# Altium integrated library Dallas Logic Delay Line.IntLib: 454 symbols (part 5 of 8)
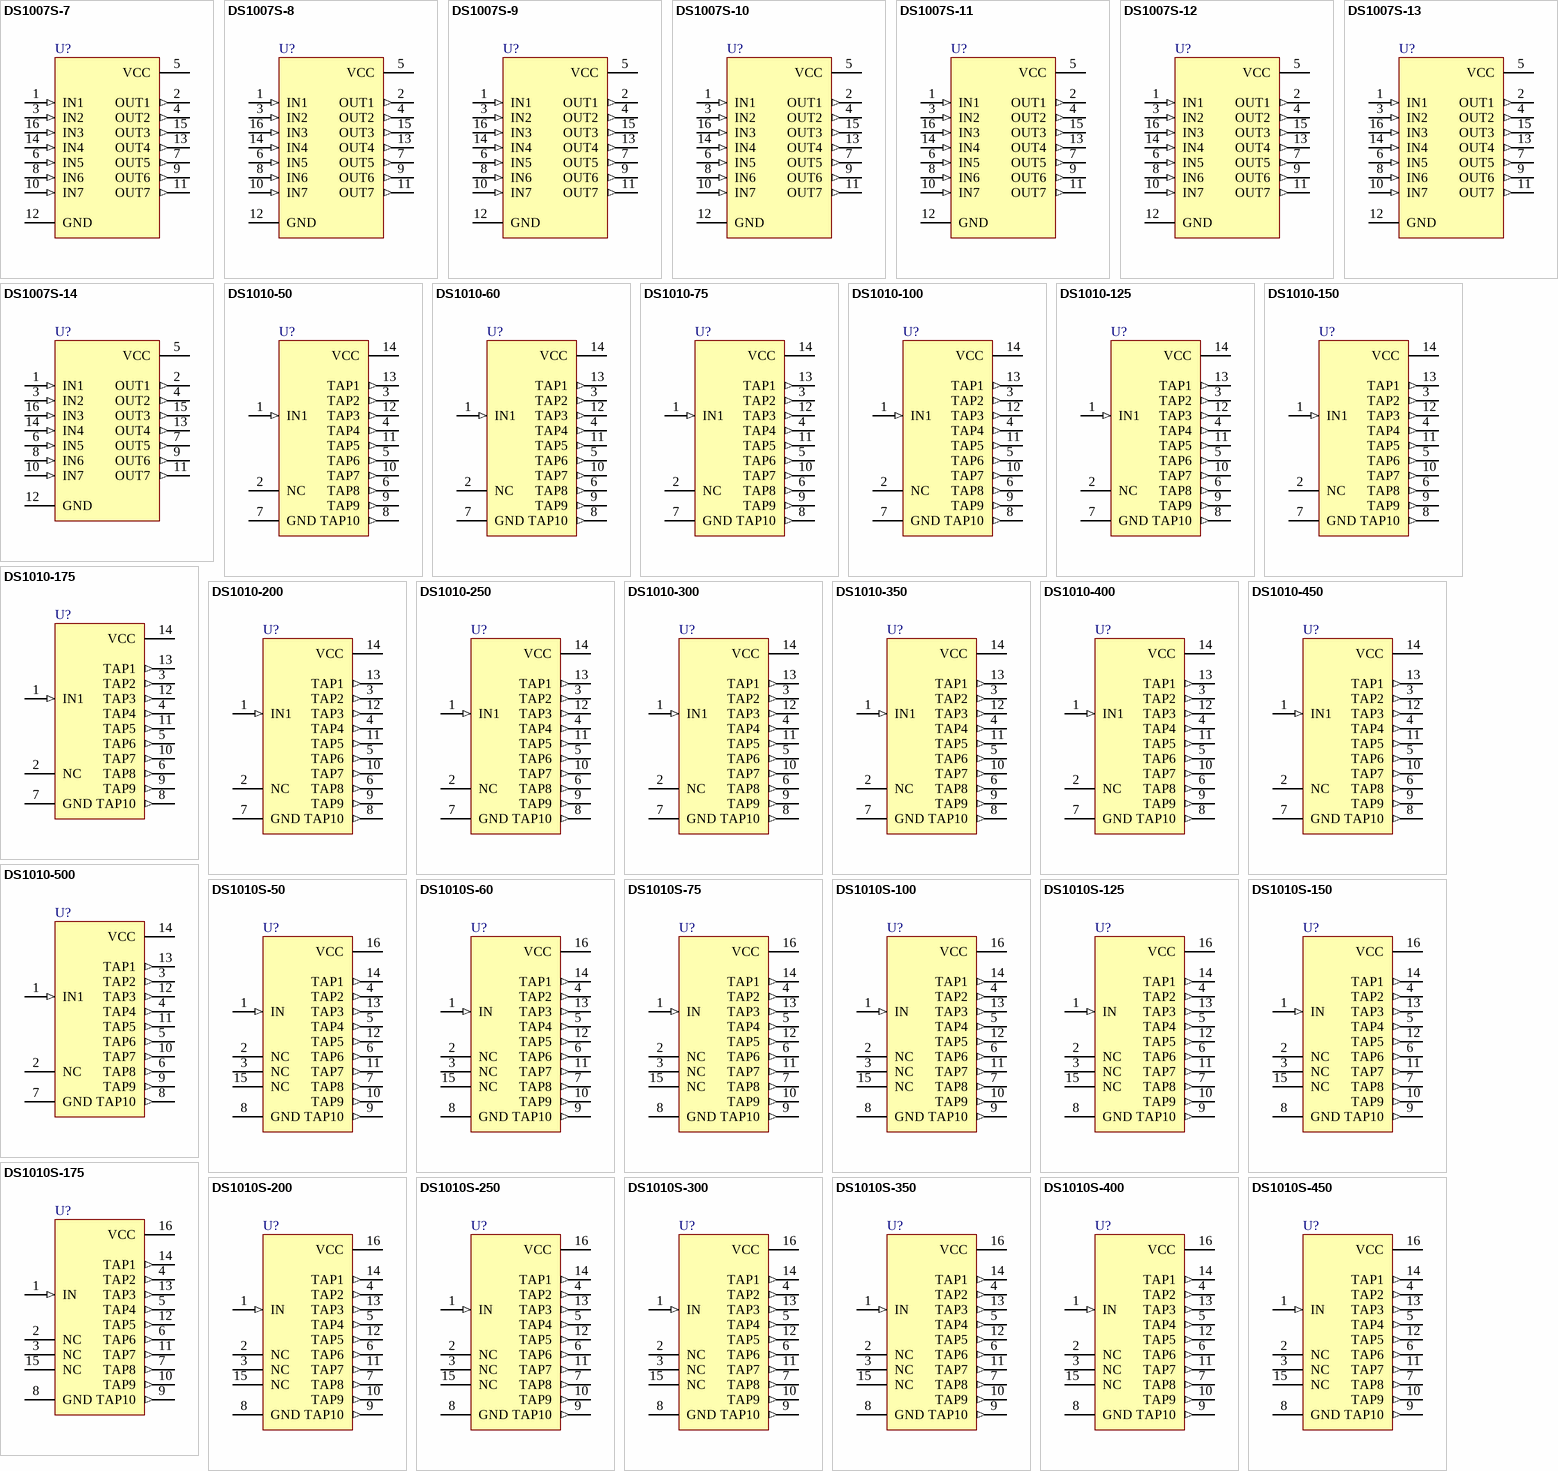
[diagram p15: symbols DS1007S-7 to DS1010S-450]

## DS1007S-8
designator U?
7-in-1 Silicon Delay Line; Published: 13-Oct-2000; LatestRevisionDate: 13-Apr-2006; LatestRevisionNote: IPC-7351 Footprint Added.; DatasheetVersion: Mar-1994; PackageVersion: 1999; PackageReference: SOIC16W; Publisher: Altium Limited; PackageDescription: 16-Pin Small Outline Integrated Circuit 1.27 mm Pitch; ComponentLink1Description: Manufacturer Link; ComponentLink1URL: http://www.maxim-ic.com/; ComponentLink2Description: Datasheet; ComponentLink2URL: http://www.maxim-ic.com/getds.cfm?qv_pk=2603&ln=en
footprint SOIC16W_N (SOIC, 16-Leads, Body 10.3x7.5mm, Pitch 1.27mm, IPC Medium Density)
footprint SOIC16W_L (SOIC, 16-Leads, Body 10.3x7.5mm, Pitch 1.27mm, IPC High Density)
footprint SOIC16W_M (SOIC, 16-Leads, Body 10.3x7.5mm, Pitch 1.27mm, IPC Low Density)
pins: 1 IN1 (in), 2 OUT1 (out), 3 IN2 (in), 4 OUT2 (out), 5 VCC (power), 6 IN5 (in), 7 OUT5 (out), 8 IN6 (in), 9 OUT6 (out), 10 IN7 (in), 11 OUT7 (out), 12 GND (power), 13 OUT4 (out), 14 IN4 (in), 15 OUT3 (out), 16 IN3 (in)

## DS1007S-9
designator U?
7-in-1 Silicon Delay Line; Published: 13-Oct-2000; LatestRevisionDate: 13-Apr-2006; LatestRevisionNote: IPC-7351 Footprint Added.; DatasheetVersion: Mar-1994; PackageVersion: 1999; PackageReference: SOIC16W; Publisher: Altium Limited; PackageDescription: 16-Pin Small Outline Integrated Circuit 1.27 mm Pitch; ComponentLink1Description: Manufacturer Link; ComponentLink1URL: http://www.maxim-ic.com/; ComponentLink2Description: Datasheet; ComponentLink2URL: http://www.maxim-ic.com/getds.cfm?qv_pk=2603&ln=en
footprint SOIC16W_N (SOIC, 16-Leads, Body 10.3x7.5mm, Pitch 1.27mm, IPC Medium Density)
footprint SOIC16W_L (SOIC, 16-Leads, Body 10.3x7.5mm, Pitch 1.27mm, IPC High Density)
footprint SOIC16W_M (SOIC, 16-Leads, Body 10.3x7.5mm, Pitch 1.27mm, IPC Low Density)
pins: 1 IN1 (in), 2 OUT1 (out), 3 IN2 (in), 4 OUT2 (out), 5 VCC (power), 6 IN5 (in), 7 OUT5 (out), 8 IN6 (in), 9 OUT6 (out), 10 IN7 (in), 11 OUT7 (out), 12 GND (power), 13 OUT4 (out), 14 IN4 (in), 15 OUT3 (out), 16 IN3 (in)

## DS1007S-10
designator U?
7-in-1 Silicon Delay Line; Published: 13-Oct-2000; LatestRevisionDate: 13-Apr-2006; LatestRevisionNote: IPC-7351 Footprint Added.; DatasheetVersion: Mar-1994; PackageVersion: 1999; PackageReference: SOIC16W; Publisher: Altium Limited; PackageDescription: 16-Pin Small Outline Integrated Circuit 1.27 mm Pitch; ComponentLink1Description: Manufacturer Link; ComponentLink1URL: http://www.maxim-ic.com/; ComponentLink2Description: Datasheet; ComponentLink2URL: http://www.maxim-ic.com/getds.cfm?qv_pk=2603&ln=en
footprint SOIC16W_N (SOIC, 16-Leads, Body 10.3x7.5mm, Pitch 1.27mm, IPC Medium Density)
footprint SOIC16W_L (SOIC, 16-Leads, Body 10.3x7.5mm, Pitch 1.27mm, IPC High Density)
footprint SOIC16W_M (SOIC, 16-Leads, Body 10.3x7.5mm, Pitch 1.27mm, IPC Low Density)
pins: 1 IN1 (in), 2 OUT1 (out), 3 IN2 (in), 4 OUT2 (out), 5 VCC (power), 6 IN5 (in), 7 OUT5 (out), 8 IN6 (in), 9 OUT6 (out), 10 IN7 (in), 11 OUT7 (out), 12 GND (power), 13 OUT4 (out), 14 IN4 (in), 15 OUT3 (out), 16 IN3 (in)

## DS1007S-11
designator U?
7-in-1 Silicon Delay Line; Published: 13-Oct-2000; LatestRevisionDate: 13-Apr-2006; LatestRevisionNote: IPC-7351 Footprint Added.; DatasheetVersion: Mar-1994; PackageVersion: 1999; PackageReference: SOIC16W; Publisher: Altium Limited; PackageDescription: 16-Pin Small Outline Integrated Circuit 1.27 mm Pitch; ComponentLink1Description: Manufacturer Link; ComponentLink1URL: http://www.maxim-ic.com/; ComponentLink2Description: Datasheet; ComponentLink2URL: http://www.maxim-ic.com/getds.cfm?qv_pk=2603&ln=en
footprint SOIC16W_N (SOIC, 16-Leads, Body 10.3x7.5mm, Pitch 1.27mm, IPC Medium Density)
footprint SOIC16W_L (SOIC, 16-Leads, Body 10.3x7.5mm, Pitch 1.27mm, IPC High Density)
footprint SOIC16W_M (SOIC, 16-Leads, Body 10.3x7.5mm, Pitch 1.27mm, IPC Low Density)
pins: 1 IN1 (in), 2 OUT1 (out), 3 IN2 (in), 4 OUT2 (out), 5 VCC (power), 6 IN5 (in), 7 OUT5 (out), 8 IN6 (in), 9 OUT6 (out), 10 IN7 (in), 11 OUT7 (out), 12 GND (power), 13 OUT4 (out), 14 IN4 (in), 15 OUT3 (out), 16 IN3 (in)

## DS1007S-12
designator U?
7-in-1 Silicon Delay Line; Published: 13-Oct-2000; LatestRevisionDate: 13-Apr-2006; LatestRevisionNote: IPC-7351 Footprint Added.; DatasheetVersion: Mar-1994; PackageVersion: 1999; PackageReference: SOIC16W; Publisher: Altium Limited; PackageDescription: 16-Pin Small Outline Integrated Circuit 1.27 mm Pitch; ComponentLink1Description: Manufacturer Link; ComponentLink1URL: http://www.maxim-ic.com/; ComponentLink2Description: Datasheet; ComponentLink2URL: http://www.maxim-ic.com/getds.cfm?qv_pk=2603&ln=en
footprint SOIC16W_N (SOIC, 16-Leads, Body 10.3x7.5mm, Pitch 1.27mm, IPC Medium Density)
footprint SOIC16W_L (SOIC, 16-Leads, Body 10.3x7.5mm, Pitch 1.27mm, IPC High Density)
footprint SOIC16W_M (SOIC, 16-Leads, Body 10.3x7.5mm, Pitch 1.27mm, IPC Low Density)
pins: 1 IN1 (in), 2 OUT1 (out), 3 IN2 (in), 4 OUT2 (out), 5 VCC (power), 6 IN5 (in), 7 OUT5 (out), 8 IN6 (in), 9 OUT6 (out), 10 IN7 (in), 11 OUT7 (out), 12 GND (power), 13 OUT4 (out), 14 IN4 (in), 15 OUT3 (out), 16 IN3 (in)

## DS1007S-13
designator U?
7-in-1 Silicon Delay Line; Published: 13-Oct-2000; LatestRevisionDate: 13-Apr-2006; LatestRevisionNote: IPC-7351 Footprint Added.; DatasheetVersion: Mar-1994; PackageVersion: 1999; PackageReference: SOIC16W; Publisher: Altium Limited; PackageDescription: 16-Pin Small Outline Integrated Circuit 1.27 mm Pitch; ComponentLink1Description: Manufacturer Link; ComponentLink1URL: http://www.maxim-ic.com/; ComponentLink2Description: Datasheet; ComponentLink2URL: http://www.maxim-ic.com/getds.cfm?qv_pk=2603&ln=en
footprint SOIC16W_N (SOIC, 16-Leads, Body 10.3x7.5mm, Pitch 1.27mm, IPC Medium Density)
footprint SOIC16W_L (SOIC, 16-Leads, Body 10.3x7.5mm, Pitch 1.27mm, IPC High Density)
footprint SOIC16W_M (SOIC, 16-Leads, Body 10.3x7.5mm, Pitch 1.27mm, IPC Low Density)
pins: 1 IN1 (in), 2 OUT1 (out), 3 IN2 (in), 4 OUT2 (out), 5 VCC (power), 6 IN5 (in), 7 OUT5 (out), 8 IN6 (in), 9 OUT6 (out), 10 IN7 (in), 11 OUT7 (out), 12 GND (power), 13 OUT4 (out), 14 IN4 (in), 15 OUT3 (out), 16 IN3 (in)

## DS1007S-14
designator U?
7-in-1 Silicon Delay Line; Published: 13-Oct-2000; LatestRevisionDate: 13-Apr-2006; LatestRevisionNote: IPC-7351 Footprint Added.; DatasheetVersion: Mar-1994; PackageVersion: 1999; PackageReference: SOIC16W; Publisher: Altium Limited; PackageDescription: 16-Pin Small Outline Integrated Circuit 1.27 mm Pitch; ComponentLink1Description: Manufacturer Link; ComponentLink1URL: http://www.maxim-ic.com/; ComponentLink2Description: Datasheet; ComponentLink2URL: http://www.maxim-ic.com/getds.cfm?qv_pk=2603&ln=en
footprint SOIC16W_N (SOIC, 16-Leads, Body 10.3x7.5mm, Pitch 1.27mm, IPC Medium Density)
footprint SOIC16W_L (SOIC, 16-Leads, Body 10.3x7.5mm, Pitch 1.27mm, IPC High Density)
footprint SOIC16W_M (SOIC, 16-Leads, Body 10.3x7.5mm, Pitch 1.27mm, IPC Low Density)
pins: 1 IN1 (in), 2 OUT1 (out), 3 IN2 (in), 4 OUT2 (out), 5 VCC (power), 6 IN5 (in), 7 OUT5 (out), 8 IN6 (in), 9 OUT6 (out), 10 IN7 (in), 11 OUT7 (out), 12 GND (power), 13 OUT4 (out), 14 IN4 (in), 15 OUT3 (out), 16 IN3 (in)

## DS1010-50
designator U?
10-Tap Silicon Delay Line; Note: Pin number 2 is Not Connected (NC); Published: 13-Oct-2000; LatestRevisionDate: 17-Jul-2002; LatestRevisionNote: Re-released for DXP Platform.; DatasheetVersion: 17-Feb-1998; PackageVersion: 1999; PackageReference: DIP14; Publisher: Altium Limited; PackageDescription: DIP, 14-Pin, Row Spacing 7.62 mm, Pitch 2.54 mm; ComponentLink1Description: Manufacturer Link; ComponentLink1URL: http://www.maxim-ic.com/; ComponentLink2Description: Datasheet; ComponentLink2URL: http://www.maxim-ic.com/getds.cfm?qv_pk=2604&ln=en
footprint DIP14 (DIP, 14-Leads, Row Spacing 7.62mm, Pitch 2.54mm, Body 19.31x6.35mm)
pins: 1 IN1 (in), 2 NC, 3 TAP2 (out), 4 TAP4 (out), 5 TAP6 (out), 6 TAP8 (out), 7 GND (power), 8 TAP10 (out), 9 TAP9 (out), 10 TAP7 (out), 11 TAP5 (out), 12 TAP3 (out), 13 TAP1 (out), 14 VCC (power)

## DS1010-60
designator U?
10-Tap Silicon Delay Line; Note: Pin number 2 is Not Connected (NC); Published: 13-Oct-2000; LatestRevisionDate: 17-Jul-2002; LatestRevisionNote: Re-released for DXP Platform.; DatasheetVersion: 17-Feb-1998; PackageVersion: 1999; PackageReference: DIP14; Publisher: Altium Limited; PackageDescription: DIP, 14-Pin, Row Spacing 7.62 mm, Pitch 2.54 mm; ComponentLink1Description: Manufacturer Link; ComponentLink1URL: http://www.maxim-ic.com/; ComponentLink2Description: Datasheet; ComponentLink2URL: http://www.maxim-ic.com/getds.cfm?qv_pk=2604&ln=en
footprint DIP14 (DIP, 14-Leads, Row Spacing 7.62mm, Pitch 2.54mm, Body 19.31x6.35mm)
pins: 1 IN1 (in), 2 NC, 3 TAP2 (out), 4 TAP4 (out), 5 TAP6 (out), 6 TAP8 (out), 7 GND (power), 8 TAP10 (out), 9 TAP9 (out), 10 TAP7 (out), 11 TAP5 (out), 12 TAP3 (out), 13 TAP1 (out), 14 VCC (power)

## DS1010-75
designator U?
10-Tap Silicon Delay Line; Note: Pin number 2 is Not Connected (NC); Published: 13-Oct-2000; LatestRevisionDate: 17-Jul-2002; LatestRevisionNote: Re-released for DXP Platform.; DatasheetVersion: 17-Feb-1998; PackageVersion: 1999; PackageReference: DIP14; Publisher: Altium Limited; PackageDescription: DIP, 14-Pin, Row Spacing 7.62 mm, Pitch 2.54 mm; ComponentLink1Description: Manufacturer Link; ComponentLink1URL: http://www.maxim-ic.com/; ComponentLink2Description: Datasheet; ComponentLink2URL: http://www.maxim-ic.com/getds.cfm?qv_pk=2604&ln=en
footprint DIP14 (DIP, 14-Leads, Row Spacing 7.62mm, Pitch 2.54mm, Body 19.31x6.35mm)
pins: 1 IN1 (in), 2 NC, 3 TAP2 (out), 4 TAP4 (out), 5 TAP6 (out), 6 TAP8 (out), 7 GND (power), 8 TAP10 (out), 9 TAP9 (out), 10 TAP7 (out), 11 TAP5 (out), 12 TAP3 (out), 13 TAP1 (out), 14 VCC (power)

## DS1010-100
designator U?
10-Tap Silicon Delay Line; Note: Pin number 2 is Not Connected (NC); Published: 13-Oct-2000; LatestRevisionDate: 17-Jul-2002; LatestRevisionNote: Re-released for DXP Platform.; DatasheetVersion: 17-Feb-1998; PackageVersion: 1999; PackageReference: DIP14; Publisher: Altium Limited; PackageDescription: DIP, 14-Pin, Row Spacing 7.62 mm, Pitch 2.54 mm; ComponentLink1Description: Manufacturer Link; ComponentLink1URL: http://www.maxim-ic.com/; ComponentLink2Description: Datasheet; ComponentLink2URL: http://www.maxim-ic.com/getds.cfm?qv_pk=2604&ln=en
footprint DIP14 (DIP, 14-Leads, Row Spacing 7.62mm, Pitch 2.54mm, Body 19.31x6.35mm)
pins: 1 IN1 (in), 2 NC, 3 TAP2 (out), 4 TAP4 (out), 5 TAP6 (out), 6 TAP8 (out), 7 GND (power), 8 TAP10 (out), 9 TAP9 (out), 10 TAP7 (out), 11 TAP5 (out), 12 TAP3 (out), 13 TAP1 (out), 14 VCC (power)

## DS1010-125
designator U?
10-Tap Silicon Delay Line; Note: Pin number 2 is Not Connected (NC); Published: 13-Oct-2000; LatestRevisionDate: 17-Jul-2002; LatestRevisionNote: Re-released for DXP Platform.; DatasheetVersion: 17-Feb-1998; PackageVersion: 1999; PackageReference: DIP14; Publisher: Altium Limited; PackageDescription: DIP, 14-Pin, Row Spacing 7.62 mm, Pitch 2.54 mm; ComponentLink1Description: Manufacturer Link; ComponentLink1URL: http://www.maxim-ic.com/; ComponentLink2Description: Datasheet; ComponentLink2URL: http://www.maxim-ic.com/getds.cfm?qv_pk=2604&ln=en
footprint DIP14 (DIP, 14-Leads, Row Spacing 7.62mm, Pitch 2.54mm, Body 19.31x6.35mm)
pins: 1 IN1 (in), 2 NC, 3 TAP2 (out), 4 TAP4 (out), 5 TAP6 (out), 6 TAP8 (out), 7 GND (power), 8 TAP10 (out), 9 TAP9 (out), 10 TAP7 (out), 11 TAP5 (out), 12 TAP3 (out), 13 TAP1 (out), 14 VCC (power)

## DS1010-150
designator U?
10-Tap Silicon Delay Line; Note: Pin number 2 is Not Connected (NC); Published: 13-Oct-2000; LatestRevisionDate: 17-Jul-2002; LatestRevisionNote: Re-released for DXP Platform.; DatasheetVersion: 17-Feb-1998; PackageVersion: 1999; PackageReference: DIP14; Publisher: Altium Limited; PackageDescription: DIP, 14-Pin, Row Spacing 7.62 mm, Pitch 2.54 mm; ComponentLink1Description: Manufacturer Link; ComponentLink1URL: http://www.maxim-ic.com/; ComponentLink2Description: Datasheet; ComponentLink2URL: http://www.maxim-ic.com/getds.cfm?qv_pk=2604&ln=en
footprint DIP14 (DIP, 14-Leads, Row Spacing 7.62mm, Pitch 2.54mm, Body 19.31x6.35mm)
pins: 1 IN1 (in), 2 NC, 3 TAP2 (out), 4 TAP4 (out), 5 TAP6 (out), 6 TAP8 (out), 7 GND (power), 8 TAP10 (out), 9 TAP9 (out), 10 TAP7 (out), 11 TAP5 (out), 12 TAP3 (out), 13 TAP1 (out), 14 VCC (power)

## DS1010-175
designator U?
10-Tap Silicon Delay Line; Note: Pin number 2 is Not Connected (NC); Published: 13-Oct-2000; LatestRevisionDate: 17-Jul-2002; LatestRevisionNote: Re-released for DXP Platform.; DatasheetVersion: 17-Feb-1998; PackageVersion: 1999; PackageReference: DIP14; Publisher: Altium Limited; PackageDescription: DIP, 14-Pin, Row Spacing 7.62 mm, Pitch 2.54 mm; ComponentLink1Description: Manufacturer Link; ComponentLink1URL: http://www.maxim-ic.com/; ComponentLink2Description: Datasheet; ComponentLink2URL: http://www.maxim-ic.com/getds.cfm?qv_pk=2604&ln=en
footprint DIP14 (DIP, 14-Leads, Row Spacing 7.62mm, Pitch 2.54mm, Body 19.31x6.35mm)
pins: 1 IN1 (in), 2 NC, 3 TAP2 (out), 4 TAP4 (out), 5 TAP6 (out), 6 TAP8 (out), 7 GND (power), 8 TAP10 (out), 9 TAP9 (out), 10 TAP7 (out), 11 TAP5 (out), 12 TAP3 (out), 13 TAP1 (out), 14 VCC (power)

## DS1010-200
designator U?
10-Tap Silicon Delay Line; Note: Pin number 2 is Not Connected (NC); Published: 13-Oct-2000; LatestRevisionDate: 17-Jul-2002; LatestRevisionNote: Re-released for DXP Platform.; DatasheetVersion: 17-Feb-1998; PackageVersion: 1999; PackageReference: DIP14; Publisher: Altium Limited; PackageDescription: DIP, 14-Pin, Row Spacing 7.62 mm, Pitch 2.54 mm; ComponentLink1Description: Manufacturer Link; ComponentLink1URL: http://www.maxim-ic.com/; ComponentLink2Description: Datasheet; ComponentLink2URL: http://www.maxim-ic.com/getds.cfm?qv_pk=2604&ln=en
footprint DIP14 (DIP, 14-Leads, Row Spacing 7.62mm, Pitch 2.54mm, Body 19.31x6.35mm)
pins: 1 IN1 (in), 2 NC, 3 TAP2 (out), 4 TAP4 (out), 5 TAP6 (out), 6 TAP8 (out), 7 GND (power), 8 TAP10 (out), 9 TAP9 (out), 10 TAP7 (out), 11 TAP5 (out), 12 TAP3 (out), 13 TAP1 (out), 14 VCC (power)

## DS1010-250
designator U?
10-Tap Silicon Delay Line; Note: Pin number 2 is Not Connected (NC); Published: 13-Oct-2000; LatestRevisionDate: 17-Jul-2002; LatestRevisionNote: Re-released for DXP Platform.; DatasheetVersion: 17-Feb-1998; PackageVersion: 1999; PackageReference: DIP14; Publisher: Altium Limited; PackageDescription: DIP, 14-Pin, Row Spacing 7.62 mm, Pitch 2.54 mm; ComponentLink1Description: Manufacturer Link; ComponentLink1URL: http://www.maxim-ic.com/; ComponentLink2Description: Datasheet; ComponentLink2URL: http://www.maxim-ic.com/getds.cfm?qv_pk=2604&ln=en
footprint DIP14 (DIP, 14-Leads, Row Spacing 7.62mm, Pitch 2.54mm, Body 19.31x6.35mm)
pins: 1 IN1 (in), 2 NC, 3 TAP2 (out), 4 TAP4 (out), 5 TAP6 (out), 6 TAP8 (out), 7 GND (power), 8 TAP10 (out), 9 TAP9 (out), 10 TAP7 (out), 11 TAP5 (out), 12 TAP3 (out), 13 TAP1 (out), 14 VCC (power)

## DS1010-300
designator U?
10-Tap Silicon Delay Line; Note: Pin number 2 is Not Connected (NC); Published: 13-Oct-2000; LatestRevisionDate: 17-Jul-2002; LatestRevisionNote: Re-released for DXP Platform.; DatasheetVersion: 17-Feb-1998; PackageVersion: 1999; PackageReference: DIP14; Publisher: Altium Limited; PackageDescription: DIP, 14-Pin, Row Spacing 7.62 mm, Pitch 2.54 mm; ComponentLink1Description: Manufacturer Link; ComponentLink1URL: http://www.maxim-ic.com/; ComponentLink2Description: Datasheet; ComponentLink2URL: http://www.maxim-ic.com/getds.cfm?qv_pk=2604&ln=en
footprint DIP14 (DIP, 14-Leads, Row Spacing 7.62mm, Pitch 2.54mm, Body 19.31x6.35mm)
pins: 1 IN1 (in), 2 NC, 3 TAP2 (out), 4 TAP4 (out), 5 TAP6 (out), 6 TAP8 (out), 7 GND (power), 8 TAP10 (out), 9 TAP9 (out), 10 TAP7 (out), 11 TAP5 (out), 12 TAP3 (out), 13 TAP1 (out), 14 VCC (power)

## DS1010-350
designator U?
10-Tap Silicon Delay Line; Note: Pin number 2 is Not Connected (NC); Published: 13-Oct-2000; LatestRevisionDate: 17-Jul-2002; LatestRevisionNote: Re-released for DXP Platform.; DatasheetVersion: 17-Feb-1998; PackageVersion: 1999; PackageReference: DIP14; Publisher: Altium Limited; PackageDescription: DIP, 14-Pin, Row Spacing 7.62 mm, Pitch 2.54 mm; ComponentLink1Description: Manufacturer Link; ComponentLink1URL: http://www.maxim-ic.com/; ComponentLink2Description: Datasheet; ComponentLink2URL: http://www.maxim-ic.com/getds.cfm?qv_pk=2604&ln=en
footprint DIP14 (DIP, 14-Leads, Row Spacing 7.62mm, Pitch 2.54mm, Body 19.31x6.35mm)
pins: 1 IN1 (in), 2 NC, 3 TAP2 (out), 4 TAP4 (out), 5 TAP6 (out), 6 TAP8 (out), 7 GND (power), 8 TAP10 (out), 9 TAP9 (out), 10 TAP7 (out), 11 TAP5 (out), 12 TAP3 (out), 13 TAP1 (out), 14 VCC (power)

## DS1010-400
designator U?
10-Tap Silicon Delay Line; Note: Pin number 2 is Not Connected (NC); Published: 13-Oct-2000; LatestRevisionDate: 17-Jul-2002; LatestRevisionNote: Re-released for DXP Platform.; DatasheetVersion: 17-Feb-1998; PackageVersion: 1999; PackageReference: DIP14; Publisher: Altium Limited; PackageDescription: DIP, 14-Pin, Row Spacing 7.62 mm, Pitch 2.54 mm; ComponentLink1Description: Manufacturer Link; ComponentLink1URL: http://www.maxim-ic.com/; ComponentLink2Description: Datasheet; ComponentLink2URL: http://www.maxim-ic.com/getds.cfm?qv_pk=2604&ln=en
footprint DIP14 (DIP, 14-Leads, Row Spacing 7.62mm, Pitch 2.54mm, Body 19.31x6.35mm)
pins: 1 IN1 (in), 2 NC, 3 TAP2 (out), 4 TAP4 (out), 5 TAP6 (out), 6 TAP8 (out), 7 GND (power), 8 TAP10 (out), 9 TAP9 (out), 10 TAP7 (out), 11 TAP5 (out), 12 TAP3 (out), 13 TAP1 (out), 14 VCC (power)

## DS1010-450
designator U?
10-Tap Silicon Delay Line; Note: Pin number 2 is Not Connected (NC); Published: 13-Oct-2000; LatestRevisionDate: 17-Jul-2002; LatestRevisionNote: Re-released for DXP Platform.; DatasheetVersion: 17-Feb-1998; PackageVersion: 1999; PackageReference: DIP14; Publisher: Altium Limited; PackageDescription: DIP, 14-Pin, Row Spacing 7.62 mm, Pitch 2.54 mm; ComponentLink1Description: Manufacturer Link; ComponentLink1URL: http://www.maxim-ic.com/; ComponentLink2Description: Datasheet; ComponentLink2URL: http://www.maxim-ic.com/getds.cfm?qv_pk=2604&ln=en
footprint DIP14 (DIP, 14-Leads, Row Spacing 7.62mm, Pitch 2.54mm, Body 19.31x6.35mm)
pins: 1 IN1 (in), 2 NC, 3 TAP2 (out), 4 TAP4 (out), 5 TAP6 (out), 6 TAP8 (out), 7 GND (power), 8 TAP10 (out), 9 TAP9 (out), 10 TAP7 (out), 11 TAP5 (out), 12 TAP3 (out), 13 TAP1 (out), 14 VCC (power)

## DS1010-500
designator U?
10-Tap Silicon Delay Line; Note: Pin number 2 is Not Connected (NC); Published: 13-Oct-2000; LatestRevisionDate: 17-Jul-2002; LatestRevisionNote: Re-released for DXP Platform.; DatasheetVersion: 17-Feb-1998; PackageVersion: 1999; PackageReference: DIP14; Publisher: Altium Limited; PackageDescription: DIP, 14-Pin, Row Spacing 7.62 mm, Pitch 2.54 mm; ComponentLink1Description: Manufacturer Link; ComponentLink1URL: http://www.maxim-ic.com/; ComponentLink2Description: Datasheet; ComponentLink2URL: http://www.maxim-ic.com/getds.cfm?qv_pk=2604&ln=en
footprint DIP14 (DIP, 14-Leads, Row Spacing 7.62mm, Pitch 2.54mm, Body 19.31x6.35mm)
pins: 1 IN1 (in), 2 NC, 3 TAP2 (out), 4 TAP4 (out), 5 TAP6 (out), 6 TAP8 (out), 7 GND (power), 8 TAP10 (out), 9 TAP9 (out), 10 TAP7 (out), 11 TAP5 (out), 12 TAP3 (out), 13 TAP1 (out), 14 VCC (power)

## DS1010S-50
designator U?
10-Tap Silicon Delay Line; Note: Pin numbers 2, 3 and 15 are Not Connected (NC); Published: 13-Oct-2000; LatestRevisionDate: 13-Apr-2006; LatestRevisionNote: IPC-7351 Footprint Added.; DatasheetVersion: 17-Feb-1998; PackageVersion: 1999; PackageReference: SOIC16W; Publisher: Altium Limited; PackageDescription: 16-Pin Small Outline Integrated Circuit 1.27 mm Pitch; ComponentLink1Description: Manufacturer Link; ComponentLink1URL: http://www.maxim-ic.com/; ComponentLink2Description: Datasheet; ComponentLink2URL: http://www.maxim-ic.com/getds.cfm?qv_pk=2604&ln=en
footprint SOIC16W_N (SOIC, 16-Leads, Body 10.3x7.5mm, Pitch 1.27mm, IPC Medium Density)
footprint SOIC16W_L (SOIC, 16-Leads, Body 10.3x7.5mm, Pitch 1.27mm, IPC High Density)
footprint SOIC16W_M (SOIC, 16-Leads, Body 10.3x7.5mm, Pitch 1.27mm, IPC Low Density)
pins: 1 IN (in), 2 NC, 3 NC, 4 TAP2 (out), 5 TAP4 (out), 6 TAP6 (out), 7 TAP8 (out), 8 GND (power), 9 TAP10 (out), 10 TAP9 (out), 11 TAP7 (out), 12 TAP5 (out), 13 TAP3 (out), 14 TAP1 (out), 15 NC, 16 VCC (power)

## DS1010S-60
designator U?
10-Tap Silicon Delay Line; Note: Pin numbers 2, 3 and 15 are Not Connected (NC); Published: 13-Oct-2000; LatestRevisionDate: 13-Apr-2006; LatestRevisionNote: IPC-7351 Footprint Added.; DatasheetVersion: 17-Feb-1998; PackageVersion: 1999; PackageReference: SOIC16W; Publisher: Altium Limited; PackageDescription: 16-Pin Small Outline Integrated Circuit 1.27 mm Pitch; ComponentLink1Description: Manufacturer Link; ComponentLink1URL: http://www.maxim-ic.com/; ComponentLink2Description: Datasheet; ComponentLink2URL: http://www.maxim-ic.com/getds.cfm?qv_pk=2604&ln=en
footprint SOIC16W_N (SOIC, 16-Leads, Body 10.3x7.5mm, Pitch 1.27mm, IPC Medium Density)
footprint SOIC16W_L (SOIC, 16-Leads, Body 10.3x7.5mm, Pitch 1.27mm, IPC High Density)
footprint SOIC16W_M (SOIC, 16-Leads, Body 10.3x7.5mm, Pitch 1.27mm, IPC Low Density)
pins: 1 IN (in), 2 NC, 3 NC, 4 TAP2 (out), 5 TAP4 (out), 6 TAP6 (out), 7 TAP8 (out), 8 GND (power), 9 TAP10 (out), 10 TAP9 (out), 11 TAP7 (out), 12 TAP5 (out), 13 TAP3 (out), 14 TAP1 (out), 15 NC, 16 VCC (power)

## DS1010S-75
designator U?
10-Tap Silicon Delay Line; Note: Pin numbers 2, 3 and 15 are Not Connected (NC); Published: 13-Oct-2000; LatestRevisionDate: 13-Apr-2006; LatestRevisionNote: IPC-7351 Footprint Added.; DatasheetVersion: 17-Feb-1998; PackageVersion: 1999; PackageReference: SOIC16W; Publisher: Altium Limited; PackageDescription: 16-Pin Small Outline Integrated Circuit 1.27 mm Pitch; ComponentLink1Description: Manufacturer Link; ComponentLink1URL: http://www.maxim-ic.com/; ComponentLink2Description: Datasheet; ComponentLink2URL: http://www.maxim-ic.com/getds.cfm?qv_pk=2604&ln=en
footprint SOIC16W_N (SOIC, 16-Leads, Body 10.3x7.5mm, Pitch 1.27mm, IPC Medium Density)
footprint SOIC16W_L (SOIC, 16-Leads, Body 10.3x7.5mm, Pitch 1.27mm, IPC High Density)
footprint SOIC16W_M (SOIC, 16-Leads, Body 10.3x7.5mm, Pitch 1.27mm, IPC Low Density)
pins: 1 IN (in), 2 NC, 3 NC, 4 TAP2 (out), 5 TAP4 (out), 6 TAP6 (out), 7 TAP8 (out), 8 GND (power), 9 TAP10 (out), 10 TAP9 (out), 11 TAP7 (out), 12 TAP5 (out), 13 TAP3 (out), 14 TAP1 (out), 15 NC, 16 VCC (power)

## DS1010S-100
designator U?
10-Tap Silicon Delay Line; Note: Pin numbers 2, 3 and 15 are Not Connected (NC); Published: 13-Oct-2000; LatestRevisionDate: 13-Apr-2006; LatestRevisionNote: IPC-7351 Footprint Added.; DatasheetVersion: 17-Feb-1998; PackageVersion: 1999; PackageReference: SOIC16W; Publisher: Altium Limited; PackageDescription: 16-Pin Small Outline Integrated Circuit 1.27 mm Pitch; ComponentLink1Description: Manufacturer Link; ComponentLink1URL: http://www.maxim-ic.com/; ComponentLink2Description: Datasheet; ComponentLink2URL: http://www.maxim-ic.com/getds.cfm?qv_pk=2604&ln=en
footprint SOIC16W_N (SOIC, 16-Leads, Body 10.3x7.5mm, Pitch 1.27mm, IPC Medium Density)
footprint SOIC16W_L (SOIC, 16-Leads, Body 10.3x7.5mm, Pitch 1.27mm, IPC High Density)
footprint SOIC16W_M (SOIC, 16-Leads, Body 10.3x7.5mm, Pitch 1.27mm, IPC Low Density)
pins: 1 IN (in), 2 NC, 3 NC, 4 TAP2 (out), 5 TAP4 (out), 6 TAP6 (out), 7 TAP8 (out), 8 GND (power), 9 TAP10 (out), 10 TAP9 (out), 11 TAP7 (out), 12 TAP5 (out), 13 TAP3 (out), 14 TAP1 (out), 15 NC, 16 VCC (power)

## DS1010S-125
designator U?
10-Tap Silicon Delay Line; Note: Pin numbers 2, 3 and 15 are Not Connected (NC); Published: 13-Oct-2000; LatestRevisionDate: 13-Apr-2006; LatestRevisionNote: IPC-7351 Footprint Added.; DatasheetVersion: 17-Feb-1998; PackageVersion: 1999; PackageReference: SOIC16W; Publisher: Altium Limited; PackageDescription: 16-Pin Small Outline Integrated Circuit 1.27 mm Pitch; ComponentLink1Description: Manufacturer Link; ComponentLink1URL: http://www.maxim-ic.com/; ComponentLink2Description: Datasheet; ComponentLink2URL: http://www.maxim-ic.com/getds.cfm?qv_pk=2604&ln=en
footprint SOIC16W_N (SOIC, 16-Leads, Body 10.3x7.5mm, Pitch 1.27mm, IPC Medium Density)
footprint SOIC16W_L (SOIC, 16-Leads, Body 10.3x7.5mm, Pitch 1.27mm, IPC High Density)
footprint SOIC16W_M (SOIC, 16-Leads, Body 10.3x7.5mm, Pitch 1.27mm, IPC Low Density)
pins: 1 IN (in), 2 NC, 3 NC, 4 TAP2 (out), 5 TAP4 (out), 6 TAP6 (out), 7 TAP8 (out), 8 GND (power), 9 TAP10 (out), 10 TAP9 (out), 11 TAP7 (out), 12 TAP5 (out), 13 TAP3 (out), 14 TAP1 (out), 15 NC, 16 VCC (power)

## DS1010S-150
designator U?
10-Tap Silicon Delay Line; Note: Pin numbers 2, 3 and 15 are Not Connected (NC); Published: 13-Oct-2000; LatestRevisionDate: 13-Apr-2006; LatestRevisionNote: IPC-7351 Footprint Added.; DatasheetVersion: 17-Feb-1998; PackageVersion: 1999; PackageReference: SOIC16W; Publisher: Altium Limited; PackageDescription: 16-Pin Small Outline Integrated Circuit 1.27 mm Pitch; ComponentLink1Description: Manufacturer Link; ComponentLink1URL: http://www.maxim-ic.com/; ComponentLink2Description: Datasheet; ComponentLink2URL: http://www.maxim-ic.com/getds.cfm?qv_pk=2604&ln=en
footprint SOIC16W_N (SOIC, 16-Leads, Body 10.3x7.5mm, Pitch 1.27mm, IPC Medium Density)
footprint SOIC16W_L (SOIC, 16-Leads, Body 10.3x7.5mm, Pitch 1.27mm, IPC High Density)
footprint SOIC16W_M (SOIC, 16-Leads, Body 10.3x7.5mm, Pitch 1.27mm, IPC Low Density)
pins: 1 IN (in), 2 NC, 3 NC, 4 TAP2 (out), 5 TAP4 (out), 6 TAP6 (out), 7 TAP8 (out), 8 GND (power), 9 TAP10 (out), 10 TAP9 (out), 11 TAP7 (out), 12 TAP5 (out), 13 TAP3 (out), 14 TAP1 (out), 15 NC, 16 VCC (power)

## DS1010S-175
designator U?
10-Tap Silicon Delay Line; Note: Pin numbers 2, 3 and 15 are Not Connected (NC); Published: 13-Oct-2000; LatestRevisionDate: 13-Apr-2006; LatestRevisionNote: IPC-7351 Footprint Added.; DatasheetVersion: 17-Feb-1998; PackageVersion: 1999; PackageReference: SOIC16W; Publisher: Altium Limited; PackageDescription: 16-Pin Small Outline Integrated Circuit 1.27 mm Pitch; ComponentLink1Description: Manufacturer Link; ComponentLink1URL: http://www.maxim-ic.com/; ComponentLink2Description: Datasheet; ComponentLink2URL: http://www.maxim-ic.com/getds.cfm?qv_pk=2604&ln=en
footprint SOIC16W_N (SOIC, 16-Leads, Body 10.3x7.5mm, Pitch 1.27mm, IPC Medium Density)
footprint SOIC16W_L (SOIC, 16-Leads, Body 10.3x7.5mm, Pitch 1.27mm, IPC High Density)
footprint SOIC16W_M (SOIC, 16-Leads, Body 10.3x7.5mm, Pitch 1.27mm, IPC Low Density)
pins: 1 IN (in), 2 NC, 3 NC, 4 TAP2 (out), 5 TAP4 (out), 6 TAP6 (out), 7 TAP8 (out), 8 GND (power), 9 TAP10 (out), 10 TAP9 (out), 11 TAP7 (out), 12 TAP5 (out), 13 TAP3 (out), 14 TAP1 (out), 15 NC, 16 VCC (power)

## DS1010S-200
designator U?
10-Tap Silicon Delay Line; Note: Pin numbers 2, 3 and 15 are Not Connected (NC); Published: 13-Oct-2000; LatestRevisionDate: 13-Apr-2006; LatestRevisionNote: IPC-7351 Footprint Added.; DatasheetVersion: 17-Feb-1998; PackageVersion: 1999; PackageReference: SOIC16W; Publisher: Altium Limited; PackageDescription: 16-Pin Small Outline Integrated Circuit 1.27 mm Pitch; ComponentLink1Description: Manufacturer Link; ComponentLink1URL: http://www.maxim-ic.com/; ComponentLink2Description: Datasheet; ComponentLink2URL: http://www.maxim-ic.com/getds.cfm?qv_pk=2604&ln=en
footprint SOIC16W_N (SOIC, 16-Leads, Body 10.3x7.5mm, Pitch 1.27mm, IPC Medium Density)
footprint SOIC16W_L (SOIC, 16-Leads, Body 10.3x7.5mm, Pitch 1.27mm, IPC High Density)
footprint SOIC16W_M (SOIC, 16-Leads, Body 10.3x7.5mm, Pitch 1.27mm, IPC Low Density)
pins: 1 IN (in), 2 NC, 3 NC, 4 TAP2 (out), 5 TAP4 (out), 6 TAP6 (out), 7 TAP8 (out), 8 GND (power), 9 TAP10 (out), 10 TAP9 (out), 11 TAP7 (out), 12 TAP5 (out), 13 TAP3 (out), 14 TAP1 (out), 15 NC, 16 VCC (power)

## DS1010S-250
designator U?
10-Tap Silicon Delay Line; Note: Pin numbers 2, 3 and 15 are Not Connected (NC); Published: 13-Oct-2000; LatestRevisionDate: 13-Apr-2006; LatestRevisionNote: IPC-7351 Footprint Added.; DatasheetVersion: 17-Feb-1998; PackageVersion: 1999; PackageReference: SOIC16W; Publisher: Altium Limited; PackageDescription: 16-Pin Small Outline Integrated Circuit 1.27 mm Pitch; ComponentLink1Description: Manufacturer Link; ComponentLink1URL: http://www.maxim-ic.com/; ComponentLink2Description: Datasheet; ComponentLink2URL: http://www.maxim-ic.com/getds.cfm?qv_pk=2604&ln=en
footprint SOIC16W_N (SOIC, 16-Leads, Body 10.3x7.5mm, Pitch 1.27mm, IPC Medium Density)
footprint SOIC16W_L (SOIC, 16-Leads, Body 10.3x7.5mm, Pitch 1.27mm, IPC High Density)
footprint SOIC16W_M (SOIC, 16-Leads, Body 10.3x7.5mm, Pitch 1.27mm, IPC Low Density)
pins: 1 IN (in), 2 NC, 3 NC, 4 TAP2 (out), 5 TAP4 (out), 6 TAP6 (out), 7 TAP8 (out), 8 GND (power), 9 TAP10 (out), 10 TAP9 (out), 11 TAP7 (out), 12 TAP5 (out), 13 TAP3 (out), 14 TAP1 (out), 15 NC, 16 VCC (power)

## DS1010S-300
designator U?
10-Tap Silicon Delay Line; Note: Pin numbers 2, 3 and 15 are Not Connected (NC); Published: 13-Oct-2000; LatestRevisionDate: 13-Apr-2006; LatestRevisionNote: IPC-7351 Footprint Added.; DatasheetVersion: 17-Feb-1998; PackageVersion: 1999; PackageReference: SOIC16W; Publisher: Altium Limited; PackageDescription: 16-Pin Small Outline Integrated Circuit 1.27 mm Pitch; ComponentLink1Description: Manufacturer Link; ComponentLink1URL: http://www.maxim-ic.com/; ComponentLink2Description: Datasheet; ComponentLink2URL: http://www.maxim-ic.com/getds.cfm?qv_pk=2604&ln=en
footprint SOIC16W_N (SOIC, 16-Leads, Body 10.3x7.5mm, Pitch 1.27mm, IPC Medium Density)
footprint SOIC16W_L (SOIC, 16-Leads, Body 10.3x7.5mm, Pitch 1.27mm, IPC High Density)
footprint SOIC16W_M (SOIC, 16-Leads, Body 10.3x7.5mm, Pitch 1.27mm, IPC Low Density)
pins: 1 IN (in), 2 NC, 3 NC, 4 TAP2 (out), 5 TAP4 (out), 6 TAP6 (out), 7 TAP8 (out), 8 GND (power), 9 TAP10 (out), 10 TAP9 (out), 11 TAP7 (out), 12 TAP5 (out), 13 TAP3 (out), 14 TAP1 (out), 15 NC, 16 VCC (power)

## DS1010S-350
designator U?
10-Tap Silicon Delay Line; Note: Pin numbers 2, 3 and 15 are Not Connected (NC); Published: 13-Oct-2000; LatestRevisionDate: 13-Apr-2006; LatestRevisionNote: IPC-7351 Footprint Added.; DatasheetVersion: 17-Feb-1998; PackageVersion: 1999; PackageReference: SOIC16W; Publisher: Altium Limited; PackageDescription: 16-Pin Small Outline Integrated Circuit 1.27 mm Pitch; ComponentLink1Description: Manufacturer Link; ComponentLink1URL: http://www.maxim-ic.com/; ComponentLink2Description: Datasheet; ComponentLink2URL: http://www.maxim-ic.com/getds.cfm?qv_pk=2604&ln=en
footprint SOIC16W_N (SOIC, 16-Leads, Body 10.3x7.5mm, Pitch 1.27mm, IPC Medium Density)
footprint SOIC16W_L (SOIC, 16-Leads, Body 10.3x7.5mm, Pitch 1.27mm, IPC High Density)
footprint SOIC16W_M (SOIC, 16-Leads, Body 10.3x7.5mm, Pitch 1.27mm, IPC Low Density)
pins: 1 IN (in), 2 NC, 3 NC, 4 TAP2 (out), 5 TAP4 (out), 6 TAP6 (out), 7 TAP8 (out), 8 GND (power), 9 TAP10 (out), 10 TAP9 (out), 11 TAP7 (out), 12 TAP5 (out), 13 TAP3 (out), 14 TAP1 (out), 15 NC, 16 VCC (power)

## DS1010S-400
designator U?
10-Tap Silicon Delay Line; Note: Pin numbers 2, 3 and 15 are Not Connected (NC); Published: 13-Oct-2000; LatestRevisionDate: 13-Apr-2006; LatestRevisionNote: IPC-7351 Footprint Added.; DatasheetVersion: 17-Feb-1998; PackageVersion: 1999; PackageReference: SOIC16W; Publisher: Altium Limited; PackageDescription: 16-Pin Small Outline Integrated Circuit 1.27 mm Pitch; ComponentLink1Description: Manufacturer Link; ComponentLink1URL: http://www.maxim-ic.com/; ComponentLink2Description: Datasheet; ComponentLink2URL: http://www.maxim-ic.com/getds.cfm?qv_pk=2604&ln=en
footprint SOIC16W_N (SOIC, 16-Leads, Body 10.3x7.5mm, Pitch 1.27mm, IPC Medium Density)
footprint SOIC16W_L (SOIC, 16-Leads, Body 10.3x7.5mm, Pitch 1.27mm, IPC High Density)
footprint SOIC16W_M (SOIC, 16-Leads, Body 10.3x7.5mm, Pitch 1.27mm, IPC Low Density)
pins: 1 IN (in), 2 NC, 3 NC, 4 TAP2 (out), 5 TAP4 (out), 6 TAP6 (out), 7 TAP8 (out), 8 GND (power), 9 TAP10 (out), 10 TAP9 (out), 11 TAP7 (out), 12 TAP5 (out), 13 TAP3 (out), 14 TAP1 (out), 15 NC, 16 VCC (power)

## DS1010S-450
designator U?
10-Tap Silicon Delay Line; Note: Pin numbers 2, 3 and 15 are Not Connected (NC); Published: 13-Oct-2000; LatestRevisionDate: 13-Apr-2006; LatestRevisionNote: IPC-7351 Footprint Added.; DatasheetVersion: 17-Feb-1998; PackageVersion: 1999; PackageReference: SOIC16W; Publisher: Altium Limited; PackageDescription: 16-Pin Small Outline Integrated Circuit 1.27 mm Pitch; ComponentLink1Description: Manufacturer Link; ComponentLink1URL: http://www.maxim-ic.com/; ComponentLink2Description: Datasheet; ComponentLink2URL: http://www.maxim-ic.com/getds.cfm?qv_pk=2604&ln=en
footprint SOIC16W_N (SOIC, 16-Leads, Body 10.3x7.5mm, Pitch 1.27mm, IPC Medium Density)
footprint SOIC16W_L (SOIC, 16-Leads, Body 10.3x7.5mm, Pitch 1.27mm, IPC High Density)
footprint SOIC16W_M (SOIC, 16-Leads, Body 10.3x7.5mm, Pitch 1.27mm, IPC Low Density)
pins: 1 IN (in), 2 NC, 3 NC, 4 TAP2 (out), 5 TAP4 (out), 6 TAP6 (out), 7 TAP8 (out), 8 GND (power), 9 TAP10 (out), 10 TAP9 (out), 11 TAP7 (out), 12 TAP5 (out), 13 TAP3 (out), 14 TAP1 (out), 15 NC, 16 VCC (power)

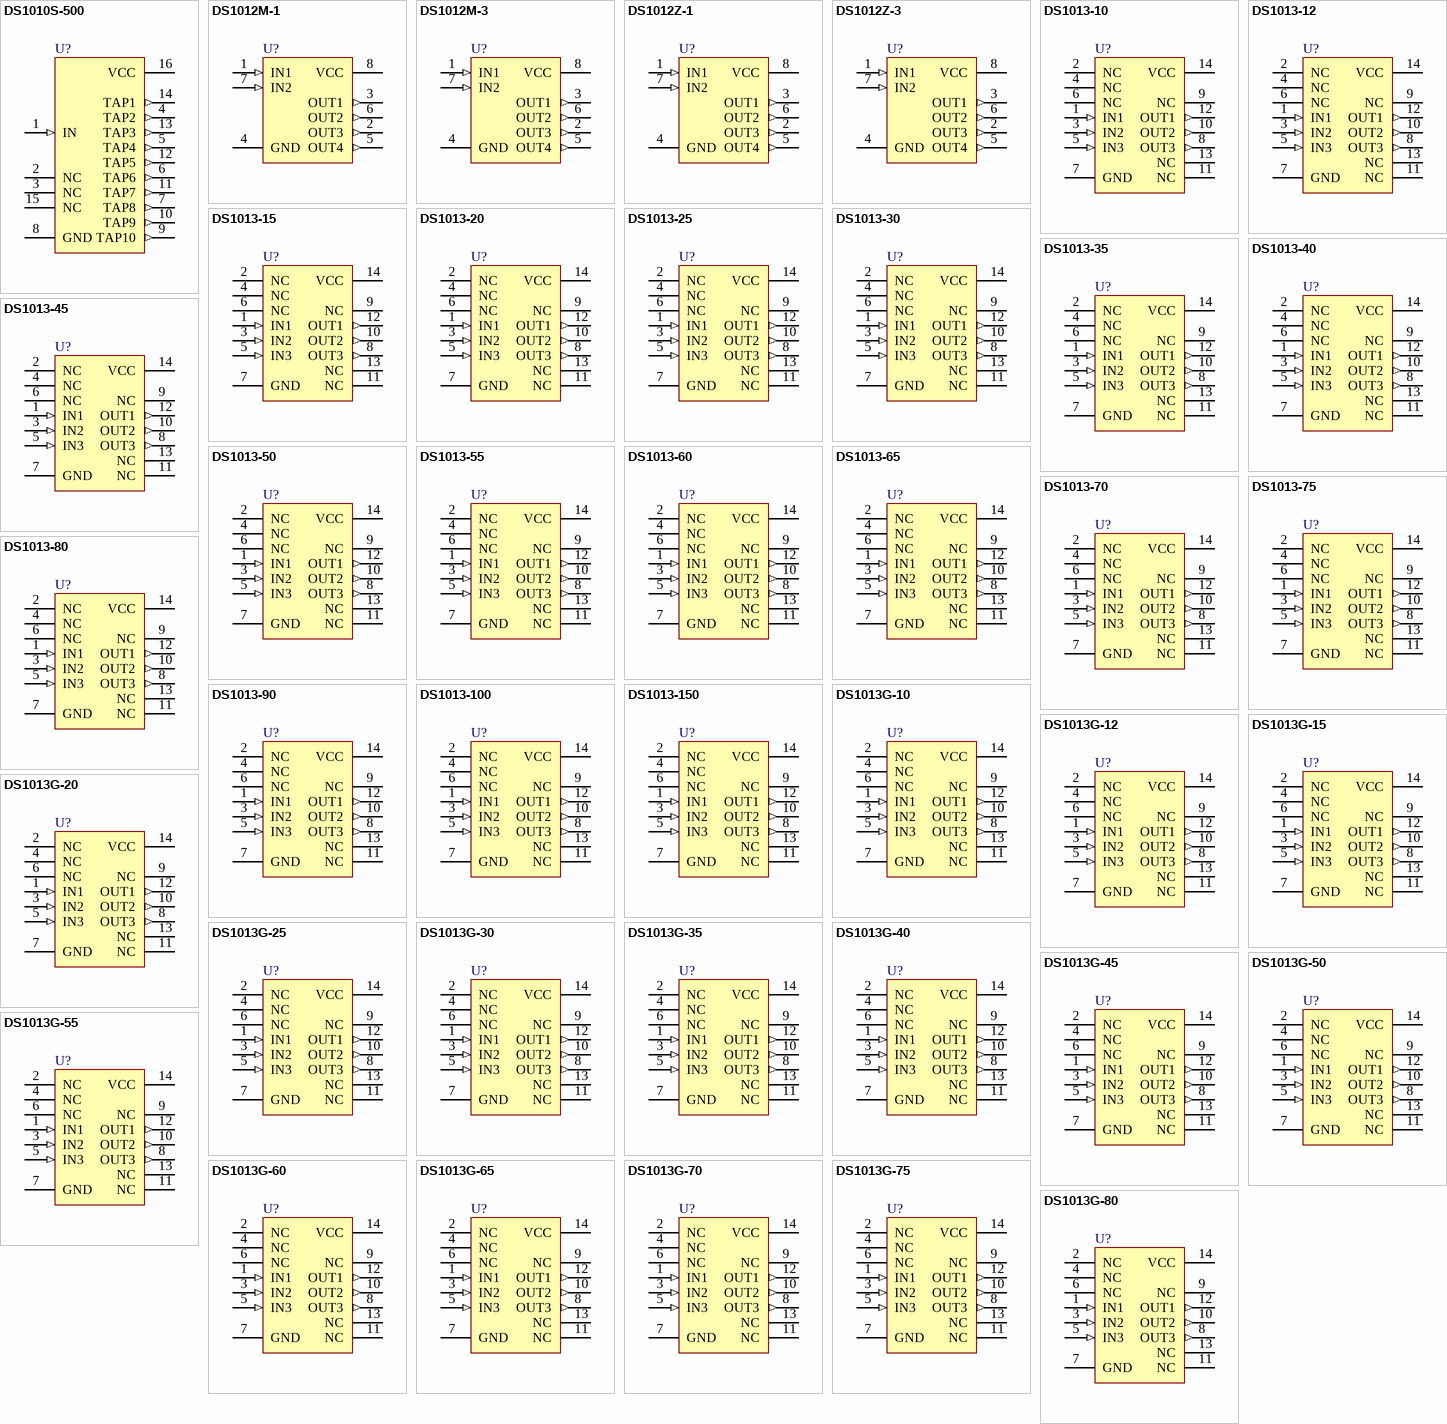
[diagram p7: symbols DS1010S-500 to DS1013G-80]

## DS1010S-500
designator U?
10-Tap Silicon Delay Line; Note: Pin numbers 2, 3 and 15 are Not Connected (NC); Published: 13-Oct-2000; LatestRevisionDate: 13-Apr-2006; LatestRevisionNote: IPC-7351 Footprint Added.; DatasheetVersion: 17-Feb-1998; PackageVersion: 1999; PackageReference: SOIC16W; Publisher: Altium Limited; PackageDescription: 16-Pin Small Outline Integrated Circuit 1.27 mm Pitch; ComponentLink1Description: Manufacturer Link; ComponentLink1URL: http://www.maxim-ic.com/; ComponentLink2Description: Datasheet; ComponentLink2URL: http://www.maxim-ic.com/getds.cfm?qv_pk=2604&ln=en
footprint SOIC16W_N (SOIC, 16-Leads, Body 10.3x7.5mm, Pitch 1.27mm, IPC Medium Density)
footprint SOIC16W_L (SOIC, 16-Leads, Body 10.3x7.5mm, Pitch 1.27mm, IPC High Density)
footprint SOIC16W_M (SOIC, 16-Leads, Body 10.3x7.5mm, Pitch 1.27mm, IPC Low Density)
pins: 1 IN (in), 2 NC, 3 NC, 4 TAP2 (out), 5 TAP4 (out), 6 TAP6 (out), 7 TAP8 (out), 8 GND (power), 9 TAP10 (out), 10 TAP9 (out), 11 TAP7 (out), 12 TAP5 (out), 13 TAP3 (out), 14 TAP1 (out), 15 NC, 16 VCC (power)

## DS1012M-1
designator U?
2-in-1 Sub-Miniature Silicon Delay Line with Logic; Published: 13-Oct-2000; LatestRevisionDate: 17-Jul-2002; LatestRevisionNote: Re-released for DXP Platform.; DatasheetVersion: 17-Feb-1998; PackageVersion: 1999; PackageReference: DIP8; Publisher: Altium Limited; PackageDescription: DIP, 8-Pin, Row Spacing 7.62 mm, Pitch 2.54 mm; ComponentLink1Description: Manufacturer Link; ComponentLink1URL: http://www.maxim-ic.com/
footprint DIP8 (DIP, 8-Leads, Row Spacing 7.62mm, Pitch 2.54mm, Body 9.65x6.35mm)
pins: 1 IN1 (in), 2 OUT3 (out), 3 OUT1 (out), 4 GND (power), 5 OUT4 (out), 6 OUT2 (out), 7 IN2 (in), 8 VCC (power)

## DS1012M-3
designator U?
2-in-1 Sub-Miniature Silicon Delay Line with Logic; Published: 13-Oct-2000; LatestRevisionDate: 17-Jul-2002; LatestRevisionNote: Re-released for DXP Platform.; DatasheetVersion: 17-Feb-1998; PackageVersion: 1999; PackageReference: DIP8; Publisher: Altium Limited; PackageDescription: DIP, 8-Pin, Row Spacing 7.62 mm, Pitch 2.54 mm; ComponentLink1Description: Manufacturer Link; ComponentLink1URL: http://www.maxim-ic.com/
footprint DIP8 (DIP, 8-Leads, Row Spacing 7.62mm, Pitch 2.54mm, Body 9.65x6.35mm)
pins: 1 IN1 (in), 2 OUT3 (out), 3 OUT1 (out), 4 GND (power), 5 OUT4 (out), 6 OUT2 (out), 7 IN2 (in), 8 VCC (power)

## DS1012Z-1
designator U?
2-in-1 Sub-Miniature Silicon Delay Line with Logic; Published: 13-Oct-2000; LatestRevisionDate: 13-Apr-2006; LatestRevisionNote: IPC-7351 Footprint Added.; DatasheetVersion: 17-Feb-1998; PackageVersion: 1999; PackageReference: SOIC8N; Publisher: Altium Limited; PackageDescription: 8-Pin Small Outline Integrated Circuit 1.27 mm Pitch; Code_IPC: SOIC127P600-8; ComponentLink1Description: Manufacturer Link; ComponentLink1URL: http://www.maxim-ic.com/
footprint SOIC8N_N (SOIC, 8-Leads, Body 4.9x3.9mm, Pitch 1.27mm, IPC Medium Density)
footprint SOIC8N_L (SOIC, 8-Leads, Body 4.9x3.9mm, Pitch 1.27mm, IPC High Density)
footprint SOIC8N_M (SOIC, 8-Leads, Body 4.9x3.9mm, Pitch 1.27mm, IPC Low Density)
pins: 1 IN1 (in), 2 OUT3 (out), 3 OUT1 (out), 4 GND (power), 5 OUT4 (out), 6 OUT2 (out), 7 IN2 (in), 8 VCC (power)

## DS1012Z-3
designator U?
2-in-1 Sub-Miniature Silicon Delay Line with Logic; Published: 13-Oct-2000; LatestRevisionDate: 13-Apr-2006; LatestRevisionNote: IPC-7351 Footprint Added.; DatasheetVersion: 17-Feb-1998; PackageVersion: 1999; PackageReference: SOIC8N; Publisher: Altium Limited; PackageDescription: 8-Pin Small Outline Integrated Circuit 1.27 mm Pitch; Code_IPC: SOIC127P600-8; ComponentLink1Description: Manufacturer Link; ComponentLink1URL: http://www.maxim-ic.com/
footprint SOIC8N_N (SOIC, 8-Leads, Body 4.9x3.9mm, Pitch 1.27mm, IPC Medium Density)
footprint SOIC8N_L (SOIC, 8-Leads, Body 4.9x3.9mm, Pitch 1.27mm, IPC High Density)
footprint SOIC8N_M (SOIC, 8-Leads, Body 4.9x3.9mm, Pitch 1.27mm, IPC Low Density)
pins: 1 IN1 (in), 2 OUT3 (out), 3 OUT1 (out), 4 GND (power), 5 OUT4 (out), 6 OUT2 (out), 7 IN2 (in), 8 VCC (power)

## DS1013-10
designator U?
3-in-1 Silicon Delay Line; Note: Pin numbers 2, 4, 6, 9, 11 and 13 are Not Connected (NC); Published: 13-Oct-2000; LatestRevisionDate: 17-Jul-2002; LatestRevisionNote: Re-released for DXP Platform.; DatasheetVersion: 17-Feb-1998; PackageVersion: 1999; PackageReference: DIP14; Publisher: Altium Limited; PackageDescription: DIP, 14-Pin, Row Spacing 7.62 mm, Pitch 2.54 mm; ComponentLink1Description: Manufacturer Link; ComponentLink1URL: http://www.maxim-ic.com/; ComponentLink2Description: Datasheet; ComponentLink2URL: http://www.maxim-ic.com/getds.cfm?qv_pk=2605&ln=en
footprint DIP14 (DIP, 14-Leads, Row Spacing 7.62mm, Pitch 2.54mm, Body 19.31x6.35mm)
pins: 1 IN1 (in), 2 NC, 3 IN2 (in), 4 NC, 5 IN3 (in), 6 NC, 7 GND (power), 8 OUT3 (out), 9 NC, 10 OUT2 (out), 11 NC, 12 OUT1 (out), 13 NC, 14 VCC (power)

## DS1013-12
designator U?
3-in-1 Silicon Delay Line; Note: Pin numbers 2, 4, 6, 9, 11 and 13 are Not Connected (NC); Published: 13-Oct-2000; LatestRevisionDate: 17-Jul-2002; LatestRevisionNote: Re-released for DXP Platform.; DatasheetVersion: 17-Feb-1998; PackageVersion: 1999; PackageReference: DIP14; Publisher: Altium Limited; PackageDescription: DIP, 14-Pin, Row Spacing 7.62 mm, Pitch 2.54 mm; ComponentLink1Description: Manufacturer Link; ComponentLink1URL: http://www.maxim-ic.com/; ComponentLink2Description: Datasheet; ComponentLink2URL: http://www.maxim-ic.com/getds.cfm?qv_pk=2605&ln=en
footprint DIP14 (DIP, 14-Leads, Row Spacing 7.62mm, Pitch 2.54mm, Body 19.31x6.35mm)
pins: 1 IN1 (in), 2 NC, 3 IN2 (in), 4 NC, 5 IN3 (in), 6 NC, 7 GND (power), 8 OUT3 (out), 9 NC, 10 OUT2 (out), 11 NC, 12 OUT1 (out), 13 NC, 14 VCC (power)

## DS1013-15
designator U?
3-in-1 Silicon Delay Line; Note: Pin numbers 2, 4, 6, 9, 11 and 13 are Not Connected (NC); Published: 13-Oct-2000; LatestRevisionDate: 17-Jul-2002; LatestRevisionNote: Re-released for DXP Platform.; DatasheetVersion: 17-Feb-1998; PackageVersion: 1999; PackageReference: DIP14; Publisher: Altium Limited; PackageDescription: DIP, 14-Pin, Row Spacing 7.62 mm, Pitch 2.54 mm; ComponentLink1Description: Manufacturer Link; ComponentLink1URL: http://www.maxim-ic.com/; ComponentLink2Description: Datasheet; ComponentLink2URL: http://www.maxim-ic.com/getds.cfm?qv_pk=2605&ln=en
footprint DIP14 (DIP, 14-Leads, Row Spacing 7.62mm, Pitch 2.54mm, Body 19.31x6.35mm)
pins: 1 IN1 (in), 2 NC, 3 IN2 (in), 4 NC, 5 IN3 (in), 6 NC, 7 GND (power), 8 OUT3 (out), 9 NC, 10 OUT2 (out), 11 NC, 12 OUT1 (out), 13 NC, 14 VCC (power)

## DS1013-20
designator U?
3-in-1 Silicon Delay Line; Note: Pin numbers 2, 4, 6, 9, 11 and 13 are Not Connected (NC); Published: 13-Oct-2000; LatestRevisionDate: 17-Jul-2002; LatestRevisionNote: Re-released for DXP Platform.; DatasheetVersion: 17-Feb-1998; PackageVersion: 1999; PackageReference: DIP14; Publisher: Altium Limited; PackageDescription: DIP, 14-Pin, Row Spacing 7.62 mm, Pitch 2.54 mm; ComponentLink1Description: Manufacturer Link; ComponentLink1URL: http://www.maxim-ic.com/; ComponentLink2Description: Datasheet; ComponentLink2URL: http://www.maxim-ic.com/getds.cfm?qv_pk=2605&ln=en
footprint DIP14 (DIP, 14-Leads, Row Spacing 7.62mm, Pitch 2.54mm, Body 19.31x6.35mm)
pins: 1 IN1 (in), 2 NC, 3 IN2 (in), 4 NC, 5 IN3 (in), 6 NC, 7 GND (power), 8 OUT3 (out), 9 NC, 10 OUT2 (out), 11 NC, 12 OUT1 (out), 13 NC, 14 VCC (power)

## DS1013-25
designator U?
3-in-1 Silicon Delay Line; Note: Pin numbers 2, 4, 6, 9, 11 and 13 are Not Connected (NC); Published: 13-Oct-2000; LatestRevisionDate: 17-Jul-2002; LatestRevisionNote: Re-released for DXP Platform.; DatasheetVersion: 17-Feb-1998; PackageVersion: 1999; PackageReference: DIP14; Publisher: Altium Limited; PackageDescription: DIP, 14-Pin, Row Spacing 7.62 mm, Pitch 2.54 mm; ComponentLink1Description: Manufacturer Link; ComponentLink1URL: http://www.maxim-ic.com/; ComponentLink2Description: Datasheet; ComponentLink2URL: http://www.maxim-ic.com/getds.cfm?qv_pk=2605&ln=en
footprint DIP14 (DIP, 14-Leads, Row Spacing 7.62mm, Pitch 2.54mm, Body 19.31x6.35mm)
pins: 1 IN1 (in), 2 NC, 3 IN2 (in), 4 NC, 5 IN3 (in), 6 NC, 7 GND (power), 8 OUT3 (out), 9 NC, 10 OUT2 (out), 11 NC, 12 OUT1 (out), 13 NC, 14 VCC (power)

## DS1013-30
designator U?
3-in-1 Silicon Delay Line; Note: Pin numbers 2, 4, 6, 9, 11 and 13 are Not Connected (NC); Published: 13-Oct-2000; LatestRevisionDate: 17-Jul-2002; LatestRevisionNote: Re-released for DXP Platform.; DatasheetVersion: 17-Feb-1998; PackageVersion: 1999; PackageReference: DIP14; Publisher: Altium Limited; PackageDescription: DIP, 14-Pin, Row Spacing 7.62 mm, Pitch 2.54 mm; ComponentLink1Description: Manufacturer Link; ComponentLink1URL: http://www.maxim-ic.com/; ComponentLink2Description: Datasheet; ComponentLink2URL: http://www.maxim-ic.com/getds.cfm?qv_pk=2605&ln=en
footprint DIP14 (DIP, 14-Leads, Row Spacing 7.62mm, Pitch 2.54mm, Body 19.31x6.35mm)
pins: 1 IN1 (in), 2 NC, 3 IN2 (in), 4 NC, 5 IN3 (in), 6 NC, 7 GND (power), 8 OUT3 (out), 9 NC, 10 OUT2 (out), 11 NC, 12 OUT1 (out), 13 NC, 14 VCC (power)

## DS1013-35
designator U?
3-in-1 Silicon Delay Line; Note: Pin numbers 2, 4, 6, 9, 11 and 13 are Not Connected (NC); Published: 13-Oct-2000; LatestRevisionDate: 17-Jul-2002; LatestRevisionNote: Re-released for DXP Platform.; DatasheetVersion: 17-Feb-1998; PackageVersion: 1999; PackageReference: DIP14; Publisher: Altium Limited; PackageDescription: DIP, 14-Pin, Row Spacing 7.62 mm, Pitch 2.54 mm; ComponentLink1Description: Manufacturer Link; ComponentLink1URL: http://www.maxim-ic.com/; ComponentLink2Description: Datasheet; ComponentLink2URL: http://www.maxim-ic.com/getds.cfm?qv_pk=2605&ln=en
footprint DIP14 (DIP, 14-Leads, Row Spacing 7.62mm, Pitch 2.54mm, Body 19.31x6.35mm)
pins: 1 IN1 (in), 2 NC, 3 IN2 (in), 4 NC, 5 IN3 (in), 6 NC, 7 GND (power), 8 OUT3 (out), 9 NC, 10 OUT2 (out), 11 NC, 12 OUT1 (out), 13 NC, 14 VCC (power)

## DS1013-40
designator U?
3-in-1 Silicon Delay Line; Note: Pin numbers 2, 4, 6, 9, 11 and 13 are Not Connected (NC); Published: 13-Oct-2000; LatestRevisionDate: 17-Jul-2002; LatestRevisionNote: Re-released for DXP Platform.; DatasheetVersion: 17-Feb-1998; PackageVersion: 1999; PackageReference: DIP14; Publisher: Altium Limited; PackageDescription: DIP, 14-Pin, Row Spacing 7.62 mm, Pitch 2.54 mm; ComponentLink1Description: Manufacturer Link; ComponentLink1URL: http://www.maxim-ic.com/; ComponentLink2Description: Datasheet; ComponentLink2URL: http://www.maxim-ic.com/getds.cfm?qv_pk=2605&ln=en
footprint DIP14 (DIP, 14-Leads, Row Spacing 7.62mm, Pitch 2.54mm, Body 19.31x6.35mm)
pins: 1 IN1 (in), 2 NC, 3 IN2 (in), 4 NC, 5 IN3 (in), 6 NC, 7 GND (power), 8 OUT3 (out), 9 NC, 10 OUT2 (out), 11 NC, 12 OUT1 (out), 13 NC, 14 VCC (power)

## DS1013-45
designator U?
3-in-1 Silicon Delay Line; Note: Pin numbers 2, 4, 6, 9, 11 and 13 are Not Connected (NC); Published: 13-Oct-2000; LatestRevisionDate: 17-Jul-2002; LatestRevisionNote: Re-released for DXP Platform.; DatasheetVersion: 17-Feb-1998; PackageVersion: 1999; PackageReference: DIP14; Publisher: Altium Limited; PackageDescription: DIP, 14-Pin, Row Spacing 7.62 mm, Pitch 2.54 mm; ComponentLink1Description: Manufacturer Link; ComponentLink1URL: http://www.maxim-ic.com/; ComponentLink2Description: Datasheet; ComponentLink2URL: http://www.maxim-ic.com/getds.cfm?qv_pk=2605&ln=en
footprint DIP14 (DIP, 14-Leads, Row Spacing 7.62mm, Pitch 2.54mm, Body 19.31x6.35mm)
pins: 1 IN1 (in), 2 NC, 3 IN2 (in), 4 NC, 5 IN3 (in), 6 NC, 7 GND (power), 8 OUT3 (out), 9 NC, 10 OUT2 (out), 11 NC, 12 OUT1 (out), 13 NC, 14 VCC (power)

## DS1013-50
designator U?
3-in-1 Silicon Delay Line; Note: Pin numbers 2, 4, 6, 9, 11 and 13 are Not Connected (NC); Published: 13-Oct-2000; LatestRevisionDate: 17-Jul-2002; LatestRevisionNote: Re-released for DXP Platform.; DatasheetVersion: 17-Feb-1998; PackageVersion: 1999; PackageReference: DIP14; Publisher: Altium Limited; PackageDescription: DIP, 14-Pin, Row Spacing 7.62 mm, Pitch 2.54 mm; ComponentLink1Description: Manufacturer Link; ComponentLink1URL: http://www.maxim-ic.com/; ComponentLink2Description: Datasheet; ComponentLink2URL: http://www.maxim-ic.com/getds.cfm?qv_pk=2605&ln=en
footprint DIP14 (DIP, 14-Leads, Row Spacing 7.62mm, Pitch 2.54mm, Body 19.31x6.35mm)
pins: 1 IN1 (in), 2 NC, 3 IN2 (in), 4 NC, 5 IN3 (in), 6 NC, 7 GND (power), 8 OUT3 (out), 9 NC, 10 OUT2 (out), 11 NC, 12 OUT1 (out), 13 NC, 14 VCC (power)

## DS1013-55
designator U?
3-in-1 Silicon Delay Line; Note: Pin numbers 2, 4, 6, 9, 11 and 13 are Not Connected (NC); Published: 13-Oct-2000; LatestRevisionDate: 17-Jul-2002; LatestRevisionNote: Re-released for DXP Platform.; DatasheetVersion: Mar-1994; PackageVersion: 1999; PackageReference: DIP14; Publisher: Altium Limited; PackageDescription: DIP, 14-Pin, Row Spacing 7.62 mm, Pitch 2.54 mm; ComponentLink1Description: Manufacturer Link; ComponentLink1URL: http://www.maxim-ic.com/; ComponentLink2Description: Datasheet; ComponentLink2URL: http://www.maxim-ic.com/getds.cfm?qv_pk=2605&ln=en
footprint DIP14 (DIP, 14-Leads, Row Spacing 7.62mm, Pitch 2.54mm, Body 19.31x6.35mm)
pins: 1 IN1 (in), 2 NC, 3 IN2 (in), 4 NC, 5 IN3 (in), 6 NC, 7 GND (power), 8 OUT3 (out), 9 NC, 10 OUT2 (out), 11 NC, 12 OUT1 (out), 13 NC, 14 VCC (power)

## DS1013-60
designator U?
3-in-1 Silicon Delay Line; Note: Pin numbers 2, 4, 6, 9, 11 and 13 are Not Connected (NC); Published: 13-Oct-2000; LatestRevisionDate: 17-Jul-2002; LatestRevisionNote: Re-released for DXP Platform.; DatasheetVersion: 17-Feb-1998; PackageVersion: 1999; PackageReference: DIP14; Publisher: Altium Limited; PackageDescription: DIP, 14-Pin, Row Spacing 7.62 mm, Pitch 2.54 mm; ComponentLink1Description: Manufacturer Link; ComponentLink1URL: http://www.maxim-ic.com/; ComponentLink2Description: Datasheet; ComponentLink2URL: http://www.maxim-ic.com/getds.cfm?qv_pk=2605&ln=en
footprint DIP14 (DIP, 14-Leads, Row Spacing 7.62mm, Pitch 2.54mm, Body 19.31x6.35mm)
pins: 1 IN1 (in), 2 NC, 3 IN2 (in), 4 NC, 5 IN3 (in), 6 NC, 7 GND (power), 8 OUT3 (out), 9 NC, 10 OUT2 (out), 11 NC, 12 OUT1 (out), 13 NC, 14 VCC (power)

## DS1013-65
designator U?
3-in-1 Silicon Delay Line; Note: Pin numbers 2, 4, 6, 9, 11 and 13 are Not Connected (NC); Published: 13-Oct-2000; LatestRevisionDate: 17-Jul-2002; LatestRevisionNote: Re-released for DXP Platform.; DatasheetVersion: Mar-1994; PackageVersion: 1999; PackageReference: DIP14; Publisher: Altium Limited; PackageDescription: DIP, 14-Pin, Row Spacing 7.62 mm, Pitch 2.54 mm; ComponentLink1Description: Manufacturer Link; ComponentLink1URL: http://www.maxim-ic.com/; ComponentLink2Description: Datasheet; ComponentLink2URL: http://www.maxim-ic.com/getds.cfm?qv_pk=2605&ln=en
footprint DIP14 (DIP, 14-Leads, Row Spacing 7.62mm, Pitch 2.54mm, Body 19.31x6.35mm)
pins: 1 IN1 (in), 2 NC, 3 IN2 (in), 4 NC, 5 IN3 (in), 6 NC, 7 GND (power), 8 OUT3 (out), 9 NC, 10 OUT2 (out), 11 NC, 12 OUT1 (out), 13 NC, 14 VCC (power)

## DS1013-70
designator U?
3-in-1 Silicon Delay Line; Note: Pin numbers 2, 4, 6, 9, 11 and 13 are Not Connected (NC); Published: 13-Oct-2000; LatestRevisionDate: 17-Jul-2002; LatestRevisionNote: Re-released for DXP Platform.; DatasheetVersion: 17-Feb-1998; PackageVersion: 1999; PackageReference: DIP14; Publisher: Altium Limited; PackageDescription: DIP, 14-Pin, Row Spacing 7.62 mm, Pitch 2.54 mm; ComponentLink1Description: Manufacturer Link; ComponentLink1URL: http://www.maxim-ic.com/; ComponentLink2Description: Datasheet; ComponentLink2URL: http://www.maxim-ic.com/getds.cfm?qv_pk=2605&ln=en
footprint DIP14 (DIP, 14-Leads, Row Spacing 7.62mm, Pitch 2.54mm, Body 19.31x6.35mm)
pins: 1 IN1 (in), 2 NC, 3 IN2 (in), 4 NC, 5 IN3 (in), 6 NC, 7 GND (power), 8 OUT3 (out), 9 NC, 10 OUT2 (out), 11 NC, 12 OUT1 (out), 13 NC, 14 VCC (power)

## DS1013-75
designator U?
3-in-1 Silicon Delay Line; Note: Pin numbers 2, 4, 6, 9, 11 and 13 are Not Connected (NC); Published: 13-Oct-2000; LatestRevisionDate: 17-Jul-2002; LatestRevisionNote: Re-released for DXP Platform.; DatasheetVersion: 17-Feb-1998; PackageVersion: 1999; PackageReference: DIP14; Publisher: Altium Limited; PackageDescription: DIP, 14-Pin, Row Spacing 7.62 mm, Pitch 2.54 mm; ComponentLink1Description: Manufacturer Link; ComponentLink1URL: http://www.maxim-ic.com/; ComponentLink2Description: Datasheet; ComponentLink2URL: http://www.maxim-ic.com/getds.cfm?qv_pk=2605&ln=en
footprint DIP14 (DIP, 14-Leads, Row Spacing 7.62mm, Pitch 2.54mm, Body 19.31x6.35mm)
pins: 1 IN1 (in), 2 NC, 3 IN2 (in), 4 NC, 5 IN3 (in), 6 NC, 7 GND (power), 8 OUT3 (out), 9 NC, 10 OUT2 (out), 11 NC, 12 OUT1 (out), 13 NC, 14 VCC (power)